# Altium schematic symbol library SCH - POWER - LINEAR VREG - TI TPS71709_DSE_6.SchLib: 1 symbol
Pins are listed as number, name and electrical type; pins without a type are passive.

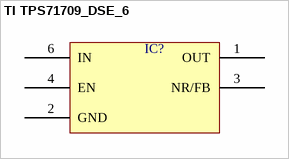
[diagram p0: symbol TI TPS71709_DSE_6]

## TI TPS71709_DSE_6
designator IC?  (value not drawn)
pins: 1 OUT, 2 GND, 3 NR/FB, 4 EN, 6 IN